# Altium footprint library WARSHIP.PcbLib: 51 footprints (part 1 of 4)
Each footprint in its own frame and in the unit in brackets; x right, y up, seen from the top. Pads: shape width x height; smd on the part's side, far side on the other; paste and mask are expansions set on the pad; w line width, h text height; cw(c..) or ccw(c..) is an arc to the next point about the centre after c.
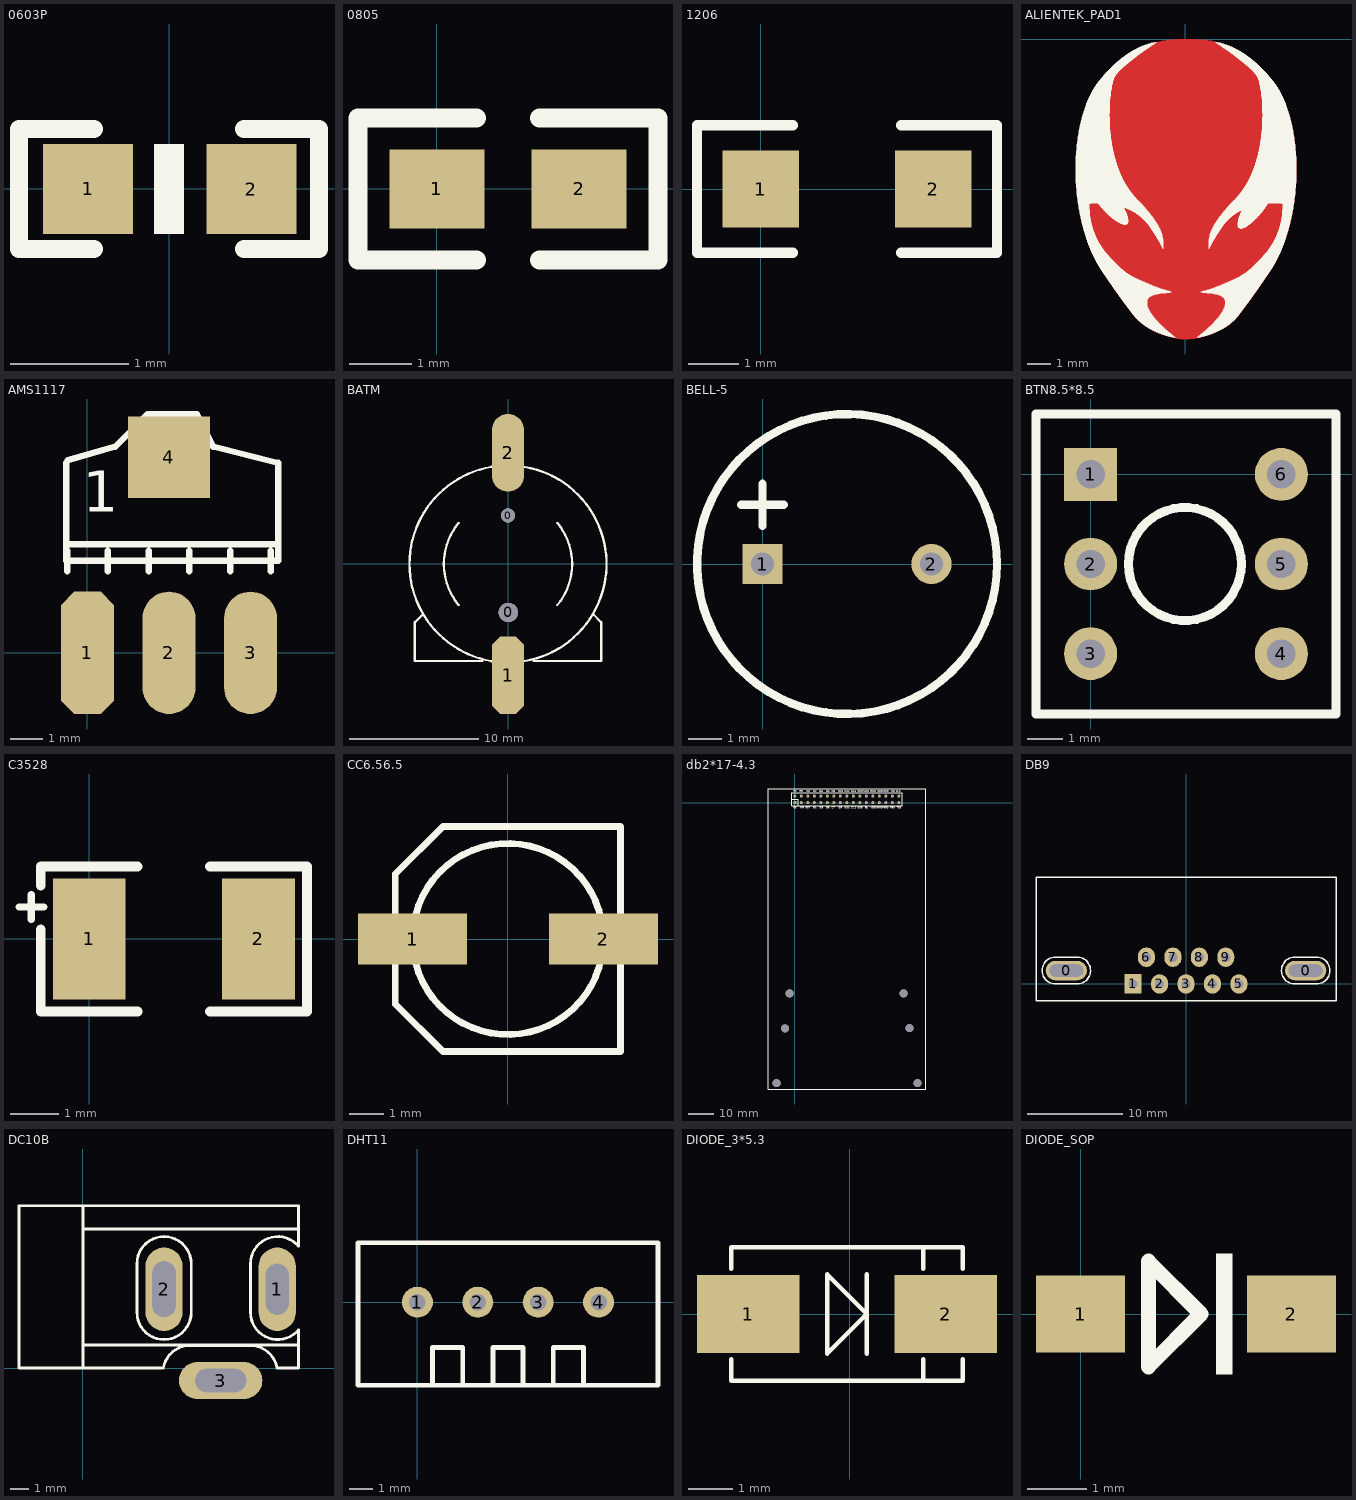
[diagram p0: the footprints below, top view; thin cyan lines are the x and y axes]

## 0603P [mil]
pads (2):
  rect 30x30 smd: 1(-27,0) 2(27.5,-0.06)
Top Overlay:
  region: 5,-15.06 5,14.94 -5,14.94 -5,-15.06
  lines w6: -25,-20.06 -50,-20.06 -50,19.94 -25,19.94 ; 25,-20.06 50,-20.06 50,19.94 25,19.94

## 0805 [mil]
pads (2):
  rect 60x50 smd: 1(0,-0.06) 2(90,-0.06)
Top Overlay:
  lines w12: 25,-45.06 -50,-45.06 -50,44.94 25,44.94 ; 65,-45.06 140,-45.06 140,44.94 65,44.94

## 1206 [mil]
pads (2):
  rect 60x60 smd: 1(0,0) 2(135,0)
Top Overlay:
  lines w8: 25,-50 -50,-50 -50,50 25,50 ; 110,-50 185,-50 185,50 110,50

## ALIENTEK_PAD1 [mm]
Top Layer:
  lines w0.014: -4.573,-5.951 4.666,-5.951 ; -4.573,-5.937 4.666,-5.937 ; -4.573,-5.923 4.666,-5.923 ; -4.573,-5.909 4.666,-5.909 ; -4.573,-5.895 4.666,-5.895 ; -4.573,-5.881 4.666,-5.881 ; -4.573,-5.867 4.666,-5.867 ; -4.573,-5.853 4.666,-5.853 ; -4.573,-5.839 4.666,-5.839 ; -4.573,-5.825 4.666,-5.825 ; -4.573,-5.812 4.666,-5.812 ; -4.573,-5.798 4.666,-5.798 ; -4.573,-5.784 4.666,-5.784 ; -4.573,-5.77 4.666,-5.77 ; -4.573,-5.756 4.666,-5.756 ; -4.573,-5.742 4.666,-5.742 ; -4.573,-5.728 4.666,-5.728 ; -4.573,-5.714 4.666,-5.714 ; -4.573,-5.7 4.666,-5.7 ; -4.573,-5.686 4.666,-5.686 ; -4.573,-5.672 4.666,-5.672 ; -4.573,-5.658 4.666,-5.658 ; -4.573,-5.644 4.666,-5.644 ; -4.573,-5.63 4.666,-5.63 ; -4.573,-5.616 4.666,-5.616 ; -4.573,-5.602 4.666,-5.602 ; -4.573,-5.588 4.666,-5.588 ; -4.573,-5.574 4.666,-5.574 ; -4.573,-5.56 4.666,-5.56 ; -4.573,-5.546 4.666,-5.546 ; -4.573,-5.532 4.666,-5.532 ; -4.573,-5.518 4.666,-5.518 ; -4.573,-5.504 4.666,-5.504 ; -4.573,-5.49 4.666,-5.49 ; -4.573,-5.476 4.666,-5.476 ; -4.573,-5.462 4.666,-5.462 ; -4.573,-5.448 4.666,-5.448 ; -4.573,-5.434 4.666,-5.434 ; -4.573,-5.42 4.666,-5.42 ; -4.573,-5.406 4.666,-5.406 ; -4.573,-5.392 4.666,-5.392 ; -4.573,-5.378 4.666,-5.378 ; -4.573,-5.364 4.666,-5.364 ; -4.573,-5.351 4.666,-5.351 ; -4.573,-5.337 4.666,-5.337 ; -4.573,-5.323 4.666,-5.323 ; -4.573,-5.309 4.666,-5.309 ; -4.573,-5.295 4.666,-5.295 ; -4.573,-5.281 4.666,-5.281 ; -4.573,-5.267 4.666,-5.267 ; -4.573,-5.253 4.666,-5.253 ; -4.573,-5.239 4.666,-5.239 ; -4.573,-5.225 4.666,-5.225 ; -4.573,-5.211 4.666,-5.211 ; -4.573,-5.197 4.666,-5.197 ; -4.573,-5.183 4.666,-5.183 ; -4.573,-5.169 4.666,-5.169 ; -4.573,-5.155 4.666,-5.155 ; -4.573,-5.141 4.666,-5.141 ; -4.573,-5.127 4.666,-5.127 ; -4.573,-5.113 4.666,-5.113 ; -4.573,-5.099 4.666,-5.099 ; -4.573,-5.085 4.666,-5.085 ; -4.573,-5.071 4.666,-5.071 ; -4.573,-5.057 4.666,-5.057 ; -4.573,-5.043 4.666,-5.043 ; -4.573,-5.029 4.666,-5.029 ; -4.573,-5.015 4.666,-5.015 ; -4.559,-6.189 4.652,-6.189 ; -4.559,-6.175 4.652,-6.175 ; -4.559,-6.161 4.652,-6.161 ; -4.559,-6.147 4.652,-6.147 ; -4.559,-6.133 4.652,-6.133 ; -4.559,-6.119 4.652,-6.119 ; -4.559,-6.105 4.652,-6.105 ; -4.559,-6.091 4.652,-6.091 ; -4.559,-6.077 4.652,-6.077 ; -4.559,-6.063 4.652,-6.063 ; -4.559,-6.049 4.652,-6.049 ; -4.559,-6.035 4.652,-6.035 ; -4.559,-6.021 4.652,-6.021 ; -4.559,-6.007 4.652,-6.007 ; -4.559,-5.993 4.652,-5.993 ; -4.559,-5.979 4.652,-5.979 ; -4.559,-5.965 4.652,-5.965 ; -4.559,-5.001 4.652,-5.001 ; -4.559,-4.987 4.652,-4.987 ; -4.559,-4.973 4.652,-4.973 ; -4.559,-4.959 4.652,-4.959 ; -4.559,-4.945 4.652,-4.945 ; -4.559,-4.931 4.652,-4.931 ; -4.559,-4.917 4.652,-4.917 ; -4.559,-4.903 4.652,-4.903 ; -4.559,-4.889 4.652,-4.889 ; -4.559,-4.876 4.652,-4.876 ; -4.559,-4.862 4.652,-4.862 ; -4.559,-4.848 4.652,-4.848 ; -4.559,-4.834 4.652,-4.834 ; -4.559,-4.82 4.652,-4.82 ; -4.559,-4.806 4.652,-4.806 ; -4.559,-4.792 4.652,-4.792 ; -4.545,-6.37 4.638,-6.37 ; -4.545,-6.356 4.638,-6.356 ; -4.545,-6.342 4.638,-6.342 ; -4.545,-6.328 4.638,-6.328 ; -4.545,-6.314 4.638,-6.314 ; -4.545,-6.3 4.638,-6.3 ; -4.545,-6.286 4.638,-6.286 ; -4.545,-6.273 4.638,-6.273 ; -4.545,-6.259 4.638,-6.259 ; -4.545,-6.245 4.638,-6.245 ; -4.545,-6.231 4.638,-6.231 ; -4.545,-6.217 4.638,-6.217 ; -4.545,-6.203 4.638,-6.203 ; -4.545,-4.778 4.638,-4.778 ; -4.545,-4.764 4.638,-4.764 ; -4.545,-4.75 4.638,-4.75 ; -4.545,-4.736 4.638,-4.736 ; -4.545,-4.722 4.638,-4.722 ; -4.545,-4.708 4.638,-4.708 ; -4.545,-4.694 4.638,-4.694 ; -4.545,-4.68 4.638,-4.68 ; -4.545,-4.666 4.638,-4.666 ; -4.545,-4.652 4.638,-4.652 ; -4.545,-4.638 4.638,-4.638 ; -4.531,-6.51 4.624,-6.51 ; -4.531,-6.496 4.624,-6.496 ; -4.531,-6.482 4.624,-6.482 ; -4.531,-6.468 4.624,-6.468 ; -4.531,-6.454 4.624,-6.454 ; -4.531,-6.44 4.624,-6.44 ; -4.531,-6.426 4.624,-6.426 ; -4.531,-6.412 4.624,-6.412 ; -4.531,-6.398 4.624,-6.398 ; -4.531,-6.384 4.624,-6.384 ; -4.531,-4.624 4.624,-4.624 ; -4.531,-4.61 4.624,-4.61 ; -4.531,-4.596 4.624,-4.596 ; -4.531,-4.582 4.624,-4.582 ; -4.531,-4.568 4.624,-4.568 ; -4.531,-4.554 4.624,-4.554 ; -4.531,-4.54 4.624,-4.54 ; -4.531,-4.526 4.624,-4.526 ; -4.531,-4.512 4.624,-4.512 ; -4.531,-4.498 4.624,-4.498 ; -4.517,-6.636 4.61,-6.636 ; -4.517,-6.622 4.61,-6.622 ; -4.517,-6.608 4.61,-6.608 ; -4.517,-6.594 4.61,-6.594 ; -4.517,-6.58 4.61,-6.58 ; -4.517,-6.566 4.61,-6.566 ; -4.517,-6.552 4.61,-6.552 ; -4.517,-6.538 4.61,-6.538 ; -4.517,-6.524 4.61,-6.524 ; -4.517,-4.484 4.61,-4.484 ; -4.517,-4.47 4.61,-4.47 ; -4.517,-4.456 4.61,-4.456 ; -4.517,-4.442 4.61,-4.442 ; -4.517,-4.428 4.61,-4.428 ; -4.517,-4.415 4.61,-4.415 ; -4.517,-4.401 4.61,-4.401 ; -4.517,-4.387 4.61,-4.387 ; -4.517,-4.373 4.61,-4.373 ; -4.503,-6.748 4.596,-6.748 ; -4.503,-6.734 4.596,-6.734 ; -4.503,-6.72 4.596,-6.72 ; -4.503,-6.706 4.596,-6.706 ; -4.503,-6.692 4.596,-6.692 ; -4.503,-6.678 4.596,-6.678 ; -4.503,-6.664 4.596,-6.664 ; -4.503,-6.65 4.596,-6.65 ; -4.503,-4.359 4.596,-4.359 ; -4.503,-4.345 4.596,-4.345 ; -4.503,-4.331 4.596,-4.331 ; -4.503,-4.317 4.596,-4.317 ; -4.503,-4.303 4.596,-4.303 ; -4.503,-4.289 4.596,-4.289 ; -4.503,-4.275 4.596,-4.275 ; -4.503,-4.261 4.596,-4.261 ; -4.489,-6.845 4.582,-6.845 ; -4.489,-6.831 4.582,-6.831 ; -4.489,-6.817 4.582,-6.817 ; -4.489,-6.803 4.582,-6.803 ; -4.489,-6.789 4.582,-6.789 ; -4.489,-6.775 4.582,-6.775 ; -4.489,-6.761 4.582,-6.761 ; -4.489,-4.247 4.582,-4.247 ; -4.489,-4.233 4.582,-4.233 ; -4.489,-4.219 4.582,-4.219 ; -4.489,-4.205 4.582,-4.205 ; -4.489,-4.191 4.582,-4.191 ; -4.489,-4.177 4.582,-4.177 ; -4.489,-4.163 4.582,-4.163 ; -4.475,-6.943 4.568,-6.943 ; -4.475,-6.929 4.568,-6.929 ; -4.475,-6.915 4.568,-6.915 ; -4.475,-6.901 4.568,-6.901 ; -4.475,-6.887 4.568,-6.887 ; -4.475,-6.873 4.568,-6.873 ; -4.475,-6.859 4.568,-6.859 ; -4.475,-4.149 4.568,-4.149 ; -4.475,-4.135 4.568,-4.135 ; -4.475,-4.121 4.568,-4.121 ; -4.475,-4.107 4.568,-4.107 ; -4.475,-4.093 4.568,-4.093 ; -4.475,-4.079 4.568,-4.079 ; -4.461,-7.041 4.554,-7.041 ; -4.461,-7.027 4.554,-7.027 ; -4.461,-7.013 4.554,-7.013 ; -4.461,-6.999 4.554,-6.999 ; -4.461,-6.985 4.554,-6.985 ; -4.461,-6.971 4.554,-6.971 ; -4.461,-6.957 4.554,-6.957 ; -4.461,-4.065 4.554,-4.065 ; -4.461,-4.051 4.554,-4.051 ; -4.461,-4.037 4.554,-4.037 ; -4.461,-4.023 4.554,-4.023 ; -4.461,-4.009 4.554,-4.009 ; -4.461,-3.995 4.554,-3.995 ; -4.447,-7.125 4.54,-7.125 ; -4.447,-7.111 4.54,-7.111 ; -4.447,-7.097 4.54,-7.097 ; -4.447,-7.083 4.54,-7.083 ; -4.447,-7.069 4.54,-7.069 ; -4.447,-7.055 4.54,-7.055 ; -4.447,-3.981 4.54,-3.981 ; -4.447,-3.967 4.54,-3.967 ; -4.447,-3.954 4.54,-3.954 ; -4.447,-3.94 4.54,-3.94 ; -4.447,-3.926 4.54,-3.926 ; -4.447,-3.912 4.54,-3.912 ; -4.433,-7.195 4.526,-7.195 ; -4.433,-7.181 4.526,-7.181 ; -4.433,-7.167 4.526,-7.167 ; -4.433,-7.153 4.526,-7.153 ; -4.433,-7.139 4.526,-7.139 ; -4.433,-3.898 4.526,-3.898 ; -4.433,-3.884 4.526,-3.884 ; -4.433,-3.87 4.526,-3.87 ; -4.433,-3.856 4.526,-3.856 ; -4.433,-3.842 4.526,-3.842 ; -4.419,-7.278 4.512,-7.278 ; -4.419,-7.264 4.512,-7.264 ; -4.419,-7.25 4.512,-7.25 ; -4.419,-7.236 4.512,-7.236 ; -4.419,-7.222 4.512,-7.222 ; -4.419,-7.209 4.512,-7.209 ; -4.419,-3.828 4.512,-3.828 ; -4.419,-3.814 4.512,-3.814 ; -4.419,-3.8 4.512,-3.8 ; -4.419,-3.786 4.512,-3.786 ; -4.419,-3.772 4.512,-3.772 ; -4.419,-3.758 4.512,-3.758 ; -4.405,-7.348 4.498,-7.348 ; -4.405,-7.334 4.498,-7.334 ; -4.405,-7.32 4.498,-7.32 ; -4.405,-7.306 4.498,-7.306 ; -4.405,-7.292 4.498,-7.292 ; -4.405,-3.744 4.498,-3.744 ; -4.405,-3.73 4.498,-3.73 ; -4.405,-3.716 4.498,-3.716 ; -4.405,-3.702 4.498,-3.702 ; -4.391,-7.418 4.484,-7.418 ; -4.391,-7.404 4.484,-7.404 ; -4.391,-7.39 4.484,-7.39 ; -4.391,-7.376 4.484,-7.376 ; -4.391,-7.362 4.484,-7.362 ; -4.391,-3.688 4.484,-3.688 ; -4.391,-3.674 4.484,-3.674 ; -4.391,-3.66 4.484,-3.66 ; -4.391,-3.646 4.484,-3.646 ; -4.391,-3.632 4.484,-3.632 ; -4.377,-7.488 4.47,-7.488 ; -4.377,-7.474 4.47,-7.474 ; -4.377,-7.46 4.47,-7.46 ; -4.377,-7.446 4.47,-7.446 ; -4.377,-7.432 4.47,-7.432 ; -4.377,-3.618 4.47,-3.618 ; -4.377,-3.604 4.47,-3.604 ; -4.377,-3.59 4.47,-3.59 ; -4.377,-3.576 4.47,-3.576 ; -4.363,-7.544 4.456,-7.544 ; -4.363,-7.53 4.456,-7.53 ; -4.363,-7.516 4.456,-7.516 ; -4.363,-7.502 4.456,-7.502 ; -4.363,-3.562 4.456,-3.562 ; -4.363,-3.548 4.456,-3.548 ; -4.363,-3.534 4.456,-3.534 ; -4.363,-3.52 4.456,-3.52 ; -4.363,-3.506 4.456,-3.506 ; -4.349,-7.614 4.442,-7.614 ; -4.349,-7.6 4.442,-7.6 ; -4.349,-7.586 4.442,-7.586 ; -4.349,-7.572 4.442,-7.572 ; -4.349,-7.558 4.442,-7.558 ; -4.349,-3.492 4.442,-3.492 ; -4.349,-3.479 4.442,-3.479 ; -4.349,-3.465 4.442,-3.465 ; -4.349,-3.451 4.442,-3.451 ; -4.335,-7.67 4.428,-7.67 ; -4.335,-7.656 4.428,-7.656 ; -4.335,-7.642 4.428,-7.642 ; -4.335,-7.628 4.428,-7.628 ; -4.335,-3.437 4.428,-3.437 ; -4.335,-3.423 4.428,-3.423 ; -4.335,-3.409 4.428,-3.409 ; -4.335,-3.395 4.428,-3.395 ; -4.321,-7.725 4.415,-7.725 ; -4.321,-7.711 4.415,-7.711 ; -4.321,-7.697 4.415,-7.697 ; -4.321,-7.683 4.415,-7.683 ; -4.321,-3.381 4.415,-3.381 ; -4.321,-3.367 4.415,-3.367 ; -4.321,-3.353 4.415,-3.353 ; -4.307,-7.781 4.401,-7.781 ; -4.307,-7.767 4.401,-7.767 ; -4.307,-7.753 4.401,-7.753 ; -4.307,-7.739 4.401,-7.739 ; -4.307,-3.339 4.401,-3.339 ; -4.307,-3.325 4.401,-3.325 ; -4.307,-3.311 4.401,-3.311 ; -4.307,-3.297 4.401,-3.297 ; -4.293,-7.837 4.387,-7.837 ; -4.293,-7.823 4.387,-7.823 ; -4.293,-7.809 4.387,-7.809 ; -4.293,-7.795 4.387,-7.795 ; -4.293,-3.283 4.387,-3.283 ; -4.293,-3.269 4.387,-3.269 ; -4.293,-3.255 4.387,-3.255 ; -4.293,-3.241 4.387,-3.241 ; -4.279,-7.893 4.373,-7.893 ; -4.279,-7.879 4.373,-7.879 ; -4.279,-7.865 4.373,-7.865 ; -4.279,-7.851 4.373,-7.851 ; -4.279,-3.227 4.373,-3.227 ; -4.279,-3.213 4.373,-3.213 ; -4.279,-3.199 4.373,-3.199 ; -4.266,-7.935 4.359,-7.935 ; -4.266,-7.921 4.359,-7.921 ; -4.266,-7.907 4.359,-7.907 ; -4.266,-3.185 4.359,-3.185 ; -4.266,-3.171 4.359,-3.171 ; -4.266,-3.157 4.359,-3.157 ; -4.266,-3.143 4.359,-3.143 ; -4.252,-7.977 4.345,-7.977 ; -4.252,-7.963 4.345,-7.963 ; -4.252,-7.949 4.345,-7.949 ; -4.252,-3.129 4.345,-3.129 ; -4.252,-3.115 4.345,-3.115 ; -4.252,-3.101 4.345,-3.101 ; -4.238,-8.033 4.331,-8.033 ; -4.238,-8.019 4.331,-8.019 ; -4.238,-8.005 4.331,-8.005 ; -4.238,-7.991 4.331,-7.991 ; -4.238,-3.087 4.331,-3.087 ; -4.238,-3.073 4.331,-3.073 ; -4.238,-3.059 4.331,-3.059 ; -4.224,-8.075 4.317,-8.075 ; -4.224,-8.061 4.317,-8.061 ; -4.224,-8.047 4.317,-8.047 ; -4.224,-3.045 4.317,-3.045 ; -4.224,-3.031 4.317,-3.031 ; -4.224,-3.018 4.317,-3.018 ; -4.21,-8.117 4.303,-8.117 ; -4.21,-8.103 4.303,-8.103 ; -4.21,-8.089 4.303,-8.089 ; -4.21,-3.004 4.303,-3.004 ; -4.21,-2.99 4.303,-2.99 ; -4.21,-2.976 4.303,-2.976 ; -4.196,-8.172 4.289,-8.172 ; -4.196,-8.158 4.289,-8.158 ; -4.196,-8.145 4.289,-8.145 ; -4.196,-8.131 4.289,-8.131 ; -4.196,-2.962 4.289,-2.962 ; -4.196,-2.948 4.289,-2.948 ; -4.196,-2.934 4.289,-2.934 ; -4.182,-8.214 4.275,-8.214 ; -4.182,-8.2 4.275,-8.2 ; -4.182,-8.186 4.275,-8.186 ; -4.182,-2.92 4.275,-2.92 ; -4.182,-2.906 4.275,-2.906 ; -4.182,-2.892 4.275,-2.892 ; -4.168,-8.256 4.261,-8.256 ; -4.168,-8.242 4.261,-8.242 ; -4.168,-8.228 4.261,-8.228 ; -4.168,-2.878 4.261,-2.878 ; -4.168,-2.864 4.261,-2.864 ; -4.168,-2.85 4.261,-2.85 ; -4.154,-8.298 4.247,-8.298 ; -4.154,-8.284 4.247,-8.284 ; -4.154,-8.27 4.247,-8.27 ; -4.154,-2.836 4.247,-2.836 ; -4.154,-2.822 4.247,-2.822 ; -4.14,-8.34 4.233,-8.34 ; -4.14,-8.326 4.233,-8.326 ; -4.14,-8.312 4.233,-8.312 ; -4.14,-2.808 4.233,-2.808 ; -4.14,-2.794 4.233,-2.794 ; -4.14,-2.78 4.233,-2.78 ; -4.126,-8.382 4.219,-8.382 ; -4.126,-8.368 4.219,-8.368 ; -4.126,-8.354 4.219,-8.354 ; -4.126,-2.766 4.219,-2.766 ; -4.126,-2.752 4.219,-2.752 ; -4.126,-2.738 4.219,-2.738 ; -4.112,-8.424 4.205,-8.424 ; -4.112,-8.41 4.205,-8.41 ; -4.112,-8.396 4.205,-8.396 ; -4.112,-2.724 4.205,-2.724 ; -4.112,-2.71 4.205,-2.71 ; -4.098,-8.466 4.191,-8.466 ; -4.098,-8.452 4.191,-8.452 ; -4.098,-8.438 4.191,-8.438 ; -4.098,-2.696 4.191,-2.696 ; -4.098,-2.682 4.191,-2.682 ; -4.098,-2.668 4.191,-2.668 ; -4.084,-8.508 4.177,-8.508 ; -4.084,-8.494 4.177,-8.494 ; -4.084,-8.48 4.177,-8.48 ; -4.084,-2.654 4.177,-2.654 ; -4.084,-2.64 4.177,-2.64 ; -4.07,-8.536 4.163,-8.536 ; -4.07,-8.522 4.163,-8.522 ; -4.07,-2.626 4.163,-2.626 ; -4.07,-2.612 4.163,-2.612 ; -4.056,-8.578 4.149,-8.578 ; -4.056,-8.564 4.149,-8.564 ; -4.056,-8.55 4.149,-8.55 ; -4.056,-2.598 4.149,-2.598 ; -4.056,-2.584 4.149,-2.584 ; -4.056,-2.57 4.149,-2.57 ; -4.042,-8.619 4.135,-8.619 ; -4.042,-8.606 4.135,-8.606 ; -4.042,-8.592 4.135,-8.592 ; -4.042,-2.557 4.135,-2.557 ; -4.042,-2.543 4.135,-2.543 ; -4.028,-8.647 4.121,-8.647 ; -4.028,-8.633 4.121,-8.633 ; -4.028,-2.529 4.121,-2.529 ; -4.028,-2.515 4.121,-2.515 ; -4.014,-8.689 4.107,-8.689 ; -4.014,-8.675 4.107,-8.675 ; -4.014,-8.661 4.107,-8.661 ; -4.014,-2.501 4.107,-2.501 ; -4.014,-2.487 4.107,-2.487 ; -4,-8.717 4.093,-8.717 ; -4,-8.703 4.093,-8.703 ; -4,-2.473 4.093,-2.473 ; -4,-2.459 4.093,-2.459 ; -3.986,-8.759 4.079,-8.759 ; -3.986,-8.745 4.079,-8.745 ; -3.986,-8.731 4.079,-8.731 ; -3.986,-2.445 4.079,-2.445 ; -3.986,-2.431 4.079,-2.431 ; -3.986,-2.417 4.079,-2.417 ; -3.972,-8.787 4.065,-8.787 ; -3.972,-8.773 4.065,-8.773 ; -3.972,-2.403 4.065,-2.403 ; -3.972,-2.389 4.065,-2.389 ; -3.958,-8.829 4.051,-8.829 ; -3.958,-8.815 4.051,-8.815 ; -3.958,-8.801 4.051,-8.801 ; -3.958,-2.375 4.051,-2.375 ; -3.958,-2.361 4.051,-2.361 ; -3.944,-8.857 4.037,-8.857 ; -3.944,-8.843 4.037,-8.843 ; -3.944,-2.347 4.037,-2.347 ; -3.944,-2.333 4.037,-2.333 ; -3.93,-8.885 4.023,-8.885 ; -3.93,-8.871 4.023,-8.871 ; -3.93,-2.319 4.023,-2.319 ; -3.916,-8.927 4.009,-8.927 ; -3.916,-8.913 4.009,-8.913 ; -3.916,-8.899 4.009,-8.899 ; -3.916,-2.305 4.009,-2.305 ; -3.916,-2.291 4.009,-2.291 ; -3.902,-8.955 3.995,-8.955 ; -3.902,-8.941 3.995,-8.941 ; -3.902,-2.277 3.995,-2.277 ; -3.902,-2.263 3.995,-2.263 ; -3.888,-8.983 3.981,-8.983 ; -3.888,-8.969 3.981,-8.969 ; -3.888,-2.249 3.981,-2.249 ; -3.888,-2.235 3.981,-2.235 ; -3.874,-9.011 3.967,-9.011 ; -3.874,-8.997 3.967,-8.997 ; -3.874,-2.221 3.967,-2.221 ; -3.874,-2.207 3.967,-2.207 ; -3.86,-9.039 3.954,-9.039 ; -3.86,-9.025 3.954,-9.025 ; -3.86,-2.193 3.954,-2.193 ; -3.86,-2.179 3.954,-2.179 ; -3.846,-9.067 3.94,-9.067 ; -3.846,-9.053 3.94,-9.053 ; -3.846,-2.165 3.94,-2.165 ; -3.832,-9.108 3.926,-9.108 ; -3.832,-9.094 3.926,-9.094 ; -3.832,-9.08 3.926,-9.08 ; -3.832,-2.151 3.926,-2.151 ; -3.832,-2.137 3.926,-2.137 ; -3.818,-9.136 3.912,-9.136 ; -3.818,-9.122 3.912,-9.122 ; -3.818,-2.123 3.912,-2.123 ; -3.818,-2.109 3.912,-2.109 ; -3.804,-9.164 3.898,-9.164 ; -3.804,-9.15 3.898,-9.15 ; -3.804,-2.095 3.898,-2.095 ; -3.791,-9.192 3.884,-9.192 ; -3.791,-9.178 3.884,-9.178 ; -3.791,-2.082 3.884,-2.082 ; -3.791,-2.068 3.884,-2.068 ; -3.777,-9.22 3.87,-9.22 ; -3.777,-9.206 3.87,-9.206 ; -3.777,-2.054 3.87,-2.054 ; -3.763,-9.248 3.856,-9.248 ; -3.763,-9.234 3.856,-9.234 ; -3.763,-2.04 3.856,-2.04 ; -3.763,-2.026 3.856,-2.026 ; -3.749,-9.276 3.842,-9.276 ; -3.749,-9.262 3.842,-9.262 ; -3.749,-2.012 3.842,-2.012 ; -3.749,-1.998 3.842,-1.998 ; -3.735,-9.29 3.828,-9.29 ; -3.735,-1.984 3.828,-1.984 ; -3.721,-9.318 3.814,-9.318 ; -3.721,-9.304 3.814,-9.304 ; -3.721,-1.97 3.814,-1.97 ; -3.721,-1.956 3.814,-1.956 ; -3.707,-9.346 3.8,-9.346 ; -3.707,-9.332 3.8,-9.332 ; -3.707,-1.942 3.8,-1.942 ; -3.693,-9.374 3.786,-9.374 ; -3.693,-9.36 3.786,-9.36 ; -3.693,-1.928 3.786,-1.928 ; -3.679,-9.402 3.772,-9.402 ; -3.679,-9.388 3.772,-9.388 ; -3.679,-1.914 3.772,-1.914 ; -3.679,-1.9 3.772,-1.9 ; -3.665,-9.43 3.758,-9.43 ; -3.665,-9.416 3.758,-9.416 ; -3.665,-1.886 3.758,-1.886 ; -3.651,-9.444 3.744,-9.444 ; -3.651,-1.872 3.744,-1.872 ; -3.637,-9.472 3.73,-9.472 ; -3.637,-9.458 3.73,-9.458 ; -3.637,-1.858 3.73,-1.858 ; -3.637,-1.844 3.73,-1.844 ; -3.623,-9.5 3.716,-9.5 ; -3.623,-9.486 3.716,-9.486 ; -3.623,-1.83 3.716,-1.83 ; -3.609,-9.528 3.702,-9.528 ; -3.609,-9.514 3.702,-9.514 ; -3.609,-1.816 3.702,-1.816 ; -3.595,-9.542 3.688,-9.542 ; -3.595,-1.802 3.688,-1.802 ; -3.595,-1.788 3.688,-1.788 ; -3.581,-9.569 3.674,-9.569 ; -3.581,-9.555 3.674,-9.555 ; -3.581,-1.774 3.674,-1.774 ; -3.567,-9.583 3.66,-9.583 ; -3.567,-1.76 3.66,-1.76 ; -3.553,-9.611 3.646,-9.611 ; -3.553,-9.597 3.646,-9.597 ; -3.553,-1.746 3.646,-1.746 ; -3.539,-9.639 3.632,-9.639 ; -3.539,-9.625 3.632,-9.625 ; -3.539,-1.732 3.632,-1.732 ; -3.539,-1.718 3.632,-1.718 ; -3.525,-9.653 3.618,-9.653 ; -3.525,-1.704 3.618,-1.704 ; -3.511,-9.681 3.604,-9.681 ; -3.511,-9.667 3.604,-9.667 ; -3.511,-1.69 3.604,-1.69 ; -3.497,-9.695 3.59,-9.695 ; -3.497,-1.676 3.59,-1.676 ; -3.483,-9.723 3.576,-9.723 ; -3.483,-9.709 3.576,-9.709 ; -3.483,-1.662 3.576,-1.662 ; -3.469,-9.737 3.562,-9.737 ; -3.469,-1.648 3.562,-1.648 ; -3.469,-1.634 3.562,-1.634 ; -3.455,-9.765 3.548,-9.765 ; -3.455,-9.751 3.548,-9.751 ; -3.455,-1.621 3.548,-1.621 ; -3.441,-9.779 3.534,-9.779 ; -3.441,-1.607 3.534,-1.607 ; -3.427,-9.807 3.52,-9.807 ; -3.427,-9.793 3.52,-9.793 ; -3.427,-1.593 3.52,-1.593 ; -3.413,-9.821 3.506,-9.821 ; -3.413,-1.579 3.506,-1.579 ; -3.399,-9.849 3.492,-9.849 ; -3.399,-9.835 3.492,-9.835 ; -3.399,-1.565 3.492,-1.565 ; -3.385,-9.863 3.479,-9.863 ; -3.385,-1.551 3.479,-1.551 ; -3.385,-1.537 3.479,-1.537 ; -3.371,-9.891 3.465,-9.891 ; -3.371,-9.877 3.465,-9.877 ; -3.371,-1.523 3.465,-1.523 ; -3.357,-9.905 3.451,-9.905 ; -3.357,-1.509 3.451,-1.509 ; -3.343,-9.933 3.437,-9.933 ; -3.343,-9.919 3.437,-9.919 ; -3.343,-1.495 3.437,-1.495 ; -3.33,-9.947 3.423,-9.947 ; -3.33,-1.481 3.423,-1.481 ; -3.316,-9.975 3.409,-9.975 ; -3.316,-9.961 3.409,-9.961 ; -3.316,-1.467 3.409,-1.467 ; -3.302,-9.989 3.395,-9.989 ; -3.302,-1.453 3.395,-1.453 ; -3.288,-10.016 3.381,-10.016 ; -3.288,-10.003 3.381,-10.003 ; -3.288,-1.439 3.381,-1.439 ; -3.274,-10.03 3.367,-10.03 ; -3.274,-1.425 3.367,-1.425 ; -3.26,-10.058 3.353,-10.058 ; -3.26,-10.044 3.353,-10.044 ; -3.26,-1.411 3.353,-1.411 ; -3.26,-1.397 3.353,-1.397 ; -3.246,-10.072 3.339,-10.072 ; -3.246,-1.383 3.339,-1.383 ; -3.232,-10.1 3.325,-10.1 ; -3.232,-10.086 3.325,-10.086 ; -3.232,-1.369 3.325,-1.369 ; -3.218,-10.114 3.311,-10.114 ; -3.218,-1.355 3.311,-1.355 ; -3.204,-10.142 3.297,-10.142 ; -3.204,-10.128 3.297,-10.128 ; -3.204,-1.341 3.297,-1.341 ; -3.19,-10.156 3.283,-10.156 ; -3.19,-1.327 3.283,-1.327 ; -3.176,-10.184 3.269,-10.184 ; -3.176,-10.17 3.269,-10.17 ; -3.176,-1.313 3.269,-1.313 ; -3.162,-10.198 3.255,-10.198 ; -3.162,-1.299 3.255,-1.299 ; -3.148,-10.212 3.241,-10.212 ; -3.148,-1.285 3.241,-1.285 ; -3.134,-10.24 3.227,-10.24 ; -3.134,-10.226 3.227,-10.226 ; -3.134,-1.271 3.227,-1.271 ; -3.12,-10.254 3.213,-10.254 ; -3.12,-1.257 3.213,-1.257 ; -3.106,-10.282 3.199,-10.282 ; -3.106,-10.268 3.199,-10.268 ; -3.106,-1.243 3.199,-1.243 ; -3.092,-10.296 3.185,-10.296 ; -3.092,-1.229 3.185,-1.229 ; -3.078,-10.324 3.171,-10.324 ; -3.078,-10.31 3.171,-10.31 ; -3.078,-1.215 3.171,-1.215 ; -3.064,-10.338 3.157,-10.338 ; -3.064,-1.201 3.157,-1.201 ; -3.05,-10.366 3.143,-10.366 ; -3.05,-10.352 3.143,-10.352 ; -3.05,-1.187 3.143,-1.187 ; -3.036,-10.38 3.129,-10.38 ; -3.036,-1.173 3.129,-1.173 ; -3.022,-10.394 3.115,-10.394 ; -3.022,-1.16 3.115,-1.16 ; -3.008,-10.422 3.101,-10.422 ; -3.008,-10.408 3.101,-10.408 ; -3.008,-1.146 3.101,-1.146 ; -2.994,-10.45 3.087,-10.45 ; -2.994,-10.436 3.087,-10.436 ; -2.994,-1.132 3.087,-1.132 ; -2.98,-10.464 3.073,-10.464 ; -2.966,-10.491 3.059,-10.491 ; -2.966,-10.477 3.059,-10.477 ; -2.966,-1.118 3.059,-1.118 ; -2.952,-10.505 3.045,-10.505 ; -2.952,-1.104 3.045,-1.104 ; -2.938,-10.519 3.031,-10.519 ; -2.938,-1.09 3.031,-1.09 ; -2.924,-10.547 3.018,-10.547 ; -2.924,-10.533 3.018,-10.533 ; -2.924,-1.076 3.018,-1.076 ; -2.91,-10.561 3.004,-10.561 ; -2.91,-1.062 3.004,-1.062 ; -2.896,-10.589 2.99,-10.589 ; -2.896,-10.575 2.99,-10.575 ; -2.896,-1.048 2.99,-1.048 ; -2.882,-10.603 2.976,-10.603 ; -2.882,-1.034 2.976,-1.034 ; -2.869,-10.617 2.962,-10.617 ; -2.869,-1.02 2.962,-1.02 ; -2.855,-10.645 2.948,-10.645 ; -2.855,-10.631 2.948,-10.631 ; -2.855,-1.006 2.948,-1.006 ; -2.841,-10.659 2.934,-10.659 ; -2.827,-10.687 2.92,-10.687 ; -2.827,-10.673 2.92,-10.673 ; -2.827,-0.992 2.92,-0.992 ; -2.813,-10.701 2.906,-10.701 ; -2.813,-0.978 2.906,-0.978 ; -2.799,-10.715 2.892,-10.715 ; -2.799,-0.964 2.892,-0.964 ; -2.785,-10.743 2.878,-10.743 ; -2.785,-10.729 2.878,-10.729 ; -2.785,-0.95 2.878,-0.95 ; -2.771,-10.757 2.864,-10.757 ; -2.771,-0.936 2.864,-0.936 ; -2.757,-10.785 2.85,-10.785 ; -2.757,-10.771 2.85,-10.771 ; -2.743,-10.799 2.836,-10.799 ; -2.743,-0.922 2.836,-0.922 ; -2.729,-10.813 2.822,-10.813 ; -2.729,-0.908 2.822,-0.908 ; -2.715,-10.841 2.808,-10.841 ; -2.715,-10.827 2.808,-10.827 ; -2.715,-0.894 2.808,-0.894 ; -2.701,-10.855 2.794,-10.855 ; -2.701,-0.88 2.794,-0.88 ; -2.687,-10.883 2.78,-10.883 ; -2.687,-10.869 2.78,-10.869 ; -2.673,-10.897 2.766,-10.897 ; -2.673,-0.866 2.766,-0.866 ; -2.659,-10.911 2.752,-10.911 ; -2.659,-0.852 2.752,-0.852 ; -2.645,-10.939 2.738,-10.939 ; -2.645,-10.925 2.738,-10.925 ; -2.645,-0.838 2.738,-0.838 ; -2.631,-10.952 2.724,-10.952 ; -2.631,-0.824 2.724,-0.824 ; -2.617,-10.98 2.71,-10.98 ; -2.617,-10.966 2.71,-10.966 ; -2.603,-10.994 2.696,-10.994 ; -2.603,-0.81 2.696,-0.81 ; -2.589,-11.008 2.682,-11.008 ; -2.589,-0.796 2.682,-0.796 ; -2.575,-11.036 2.668,-11.036 ; -2.575,-11.022 2.668,-11.022 ; -2.575,-0.782 2.668,-0.782 ; -2.561,-11.05 2.654,-11.05 ; -2.547,-11.064 2.64,-11.064 ; -2.547,-0.768 2.64,-0.768 ; -2.533,-11.092 2.626,-11.092 ; -2.533,-11.078 2.626,-11.078 ; -2.533,-0.754 2.626,-0.754 ; -2.519,-11.106 2.612,-11.106 ; -2.519,-0.74 2.612,-0.74 ; -2.505,-11.12 2.598,-11.12 ; -2.491,-11.148 2.584,-11.148 ; -2.491,-11.134 2.584,-11.134 ; -2.491,-0.726 2.584,-0.726 ; -2.477,-11.162 2.57,-11.162 ; -2.477,-0.712 2.57,-0.712 ; -2.463,-11.176 2.557,-11.176 ; -2.449,-11.204 2.543,-11.204 ; -2.449,-11.19 2.543,-11.19 ; -2.449,-0.699 2.543,-0.699 ; -2.435,-11.218 2.529,-11.218 ; -2.435,-0.685 2.529,-0.685 ; -2.421,-11.232 2.515,-11.232 ; -2.407,-11.26 2.501,-11.26 ; -2.407,-11.246 2.501,-11.246 ; -2.407,-0.671 2.501,-0.671 ; -2.394,-11.274 2.487,-11.274 ; -2.394,-0.657 2.487,-0.657 ; -2.38,-11.288 2.473,-11.288 ; -2.366,-11.316 2.459,-11.316 ; -2.366,-11.302 2.459,-11.302 ; -2.366,-0.643 2.459,-0.643 ; -2.352,-11.33 2.445,-11.33 ; -2.352,-0.629 2.445,-0.629 ; -2.338,-11.344 2.431,-11.344 ; -2.324,-11.372 2.417,-11.372 ; -2.324,-11.358 2.417,-11.358 ; -2.324,-0.615 2.417,-0.615 ; -2.31,-11.386 2.403,-11.386 ; -2.31,-0.601 2.403,-0.601 ; -2.296,-11.413 2.375,-11.413 ; -2.296,-11.4 2.389,-11.4 ; -2.282,-11.427 2.375,-11.427 ; -2.282,-0.587 2.375,-0.587 ; -2.268,-11.441 2.361,-11.441 ; -2.268,-0.573 2.361,-0.573 ; -2.254,-11.469 2.347,-11.469 ; -2.254,-11.455 2.361,-11.455 ; -2.24,-11.483 2.333,-11.483 ; -2.24,-0.559 2.333,-0.559 ; -2.226,-11.497 2.319,-11.497 ; -2.212,-11.511 2.305,-11.511 ; -2.212,-0.545 2.305,-0.545 ; -2.198,-11.539 2.291,-11.539 ; -2.198,-11.525 2.305,-11.525 ; -2.198,-0.531 2.291,-0.531 ; -2.184,-11.553 2.277,-11.553 ; -2.17,-11.567 2.263,-11.567 ; -2.17,-0.517 2.263,-0.517 ; -2.156,-11.581 2.263,-11.581 ; -2.142,-11.609 2.235,-11.609 ; -2.142,-11.595 2.249,-11.595 ; -2.142,-0.503 2.235,-0.503 ; -2.128,-11.623 2.221,-11.623 ; -2.114,-11.637 2.221,-11.637 ; -2.114,-0.489 2.207,-0.489 ; -2.1,-11.651 2.207,-11.651 ; -2.1,-0.475 2.193,-0.475 ; -2.086,-11.665 2.193,-11.665 ; -2.072,-11.679 2.179,-11.679 ; -2.072,-0.461 2.165,-0.461 ; -2.058,-11.693 2.165,-11.693 ; -2.044,-11.707 2.151,-11.707 ; -2.044,-0.447 2.137,-0.447 ; -2.03,-11.721 2.137,-11.721 ; -2.016,-11.735 2.123,-11.735 ; -2.016,-0.433 2.123,-0.433 ; -2.002,-11.749 2.109,-11.749 ; -1.988,-11.763 2.095,-11.763 ; -1.988,-0.419 2.095,-0.419 ; -1.974,-11.777 2.082,-11.777 ; -1.96,-11.791 2.068,-11.791 ; -1.96,-0.405 2.068,-0.405 ; -1.946,-11.805 2.054,-11.805 ; -1.933,-11.819 2.04,-11.819 ; -1.933,-0.391 2.026,-0.391 ; -1.919,-11.833 2.026,-11.833 ; -1.905,-11.847 2.012,-11.847 ; -1.905,-0.377 1.998,-0.377 ; -1.891,-11.861 1.998,-11.861 ; -1.877,-11.874 1.984,-11.874 ; -1.877,-0.363 1.97,-0.363 ; -1.849,-11.888 1.97,-11.888 ; -1.835,-11.902 1.942,-11.902 ; -1.835,-0.349 1.928,-0.349 ; -1.821,-11.916 1.928,-11.916 ; -1.807,-11.93 1.914,-11.93 ; -1.807,-0.335 1.9,-0.335 ; -1.793,-11.944 1.9,-11.944 ; -1.779,-0.321 1.872,-0.321 ; -1.765,-11.958 1.872,-11.958 ; -1.751,-11.972 1.858,-11.972 ; -1.751,-0.307 1.83,-0.307 ; -1.737,-11.986 1.844,-11.986 ; -1.709,-12 1.816,-12 ; -1.709,-0.293 1.802,-0.293 ; -1.695,-12.014 1.802,-12.014 ; -1.681,-12.028 1.788,-12.028 ; -1.667,-0.279 1.76,-0.279 ; -1.653,-12.042 1.76,-12.042 ; -1.639,-12.056 1.746,-12.056 ; -1.639,-0.265 1.718,-0.265 ; -1.611,-12.07 1.718,-12.07 ; -1.597,-12.084 1.704,-12.084 ; -1.597,-0.251 1.676,-0.251 ; -1.569,-12.098 1.676,-12.098 ; -1.555,-12.112 1.662,-12.112 ; -1.555,-0.237 -0.064,-0.237 1.634,-0.237 ; -1.527,-12.126 1.634,-12.126 ; -1.513,-0.224 -0.064,-0.224 1.607,-0.224 ; -1.499,-12.14 1.621,-12.14 ; -1.472,-12.154 1.579,-12.154 ; -1.472,-0.21 -0.064,-0.21 1.565,-0.21 ; -1.458,-12.168 1.551,-12.168 ; -1.43,-12.182 1.523,-12.182 ; -1.416,-0.196 -0.064,-0.196 1.523,-0.196 ; -1.402,-12.196 1.495,-12.196 ; -1.374,-12.21 1.481,-12.21 ; -1.374,-0.182 -0.064,-0.182 1.481,-0.182 ; -1.36,-12.224 1.453,-12.224 ; -1.332,-12.238 1.425,-12.238 ; -1.318,-0.168 -0.064,-0.168 1.439,-0.168 ; -1.304,-12.252 1.383,-12.252 ; -1.276,-12.266 -1.271,-12.266 ; -1.276,-0.154 -0.064,-0.154 1.397,-0.154 ; -1.248,-12.28 -1.243,-12.28 ; -1.248,-12.266 1.355,-12.266 ; -1.22,-12.28 1.327,-12.28 ; -1.22,-0.14 -0.064,-0.14 1.355,-0.14 ; -1.192,-12.294 1.299,-12.294 ; -1.15,-12.308 1.257,-12.308 ; -1.15,-0.126 -0.064,-0.126 1.299,-0.126 ; -1.122,-12.322 1.229,-12.322 ; -1.094,-12.336 1.201,-12.336 ; -1.094,-0.112 -0.064,-0.112 1.243,-0.112 ; -1.052,-12.349 1.16,-12.349 ; -1.024,-0.098 -0.064,-0.098 1.187,-0.098 ; -1.01,-12.363 1.118,-12.363 ; -0.983,-12.377 1.09,-12.377 ; -0.955,-0.084 -0.064,-0.084 1.118,-0.084 ; -0.941,-12.391 1.048,-12.391 ; -0.899,-12.405 1.006,-12.405 ; -0.871,-0.07 -0.064,-0.07 1.048,-0.07 ; -0.857,-12.419 0.964,-12.419 ; -0.815,-12.433 0.922,-12.433 ; -0.787,-0.056 -0.064,-0.056 0.95,-0.056 ; -0.759,-12.447 0.88,-12.447 ; -0.717,-12.461 0.824,-12.461 ; -0.675,-0.042 -0.064,-0.042 0.838,-0.042 ; -0.661,-12.475 0.782,-12.475 ; -0.605,-12.489 0.726,-12.489 ; -0.563,-0.028 -0.064,-0.028 0.685,-0.028 ; -0.549,-12.503 0.671,-12.503 ; -0.508,-12.517 0.615,-12.517 ; -0.452,-12.531 0.559,-12.531 ; -0.41,-0.014 -0.064,-0.014 0.475,-0.014 ; -0.396,-12.545 0.489,-12.545 ; -0.34,-12.559 0.405,-12.559 ; -0.27,-12.573 0.307,-12.573 ; -0.186,-12.587 0.196,-12.587 ; -0.047,0 0,0 ; -0.019,-12.601 -0.014,-12.601
Top Overlay:
  drawing of 2158 lines, arcs and shapes, not listed

## AMS1117 [mil]
pads (4):
  oct 65x150 smd: 1(0.03,-0.06)
  oval 65x150 smd: 2(100.03,-0.06) 3(200.03,-0.06)
  rect 100x100 smd: 4(100.03,239.94)
Top Overlay:
  lines w7.87: -25.97,232.94 -25.97,132.94 ; -24.97,99.94 -24.97,124.94 ; -24.3,236.27 34.03,252.94 74.03,292.94 134.03,292.94 154.03,252.94 234.03,232.94 234.03,112.94 ; 25.03,99.94 25.03,124.94 ; 75.03,99.94 75.03,124.94 ; 125.03,99.94 125.03,124.94 ; 175.03,99.94 175.03,124.94 ; 225.03,99.94 225.03,124.94 ; -25.97,132.94 -25.97,112.94 234.03,112.94 ; -25.97,132.94 234.03,132.94 234.03,112.94
  text "1" at -5.97,172.94 h50

## BATM [mm]
pads (4):
  round 1.1 hole 1.1 unplated: 0(0,3.748)
  round 1.5 hole 1.5 unplated: 0(0.025,-3.752)
  oct 2.5x6 smd: 1(0,-8.602)
  oval 2.5x6 smd: 2(0,8.598)
Top Overlay:
  lines w0.178: -6.6,-3.902 -7.2,-4.502 -7.2,-7.502 -2,-7.502 ; -3.815,-3.171 cw(c0,-0.002) -3.812,3.171 ; -0.833,-7.576 cw(c0,-0.002) -7.62,-0.002 cw(c0,-0.002) -0.833,7.573 ; 0.833,-7.576 ccw(c0,-0.002) 0.833,7.573 ; 2,-7.502 7.2,-7.502 7.2,-4.502 6.625,-3.927 ; 3.81,-3.177 ccw(c0,-0.002) 3.812,3.171

## BELL-5 [mm]
pads (2):
  rect 1.2x1.2 hole 0.7: 1(0,0)
  round 1.2 hole 0.7: 2(5.08,0)
Top Overlay:
  circle w0.254: c2.54,0 r4.51
  lines w0.254: -0.635,1.778 0.635,1.778 ; 0,1.143 0,2.413

## BTN8.5*8.5 [mm]
pads (6):
  rect 1.5x1.5 hole 0.8: 1(0,0)
  round 1.5 hole 0.8: 2(0,-2.54) 3(0,-5.08) 4(5.4,-5.08) 5(5.4,-2.54) 6(5.4,0)
Top Overlay:
  circle w0.254: c2.667,-2.54 r1.6
  lines w0.254: -1.55,-6.79 6.95,-6.79 6.95,1.71 -1.55,1.71 -1.55,-6.79

## C3528 [mm]
pads (2):
  rect 1.5x2.5 smd: 1(0,0) 2(3.5,0)
Top Overlay:
  lines w0.152: -1.448,0.662 -0.94,0.662 ; -1.194,0.408 -1.194,0.916
  lines w0.203: -1,0.2 -1,-1.5 1.005,-1.5 ; -1,1.1 -1,1.5 1,1.5 ; 2.5,-1.5 4.5,-1.5 4.5,1.5 2.5,1.5

## CC6.56.5 [mm]
pads (2):
  rect 3.2x1.5 smd: 1(-2.794,0) 2(2.8,0)
Top Overlay:
  circle w0.2: c0,0 r2.8
  lines w0.2: -3.302,-1.905 -3.302,1.905 -1.905,3.302 3.302,3.302 3.302,-3.302 -1.905,-3.302 -3.302,-1.905

## db2*17-4.3 [mm]
pads (40):
  rect 1.2x1.2 hole 0.7: 1(-0.002,0.006)
  round 1.2 hole 0.7: 2(-0.002,2.546) 3(2.538,0.006) 4(2.538,2.546) 5(5.08,0) 6(5.078,2.546) 7(7.62,0) 8(7.62,2.54) 9(10.158,0.006) 10(10.158,2.546) 11(12.698,0.006) 12(12.698,2.546) 13(15.238,0.006) 14(15.238,2.546) 15(17.778,0.006) 16(17.778,2.546) 17(20.318,0.006) 18(20.318,2.546) 19(22.858,0.006) 20(22.858,2.546) 21(25.398,0.006) 22(25.398,2.546) 23(27.938,0.006) 24(27.938,2.546) 25(30.478,0.006) 26(30.478,2.546) 27(33.018,0.006) 28(33.018,2.546) 29(35.558,0.006) 30(35.558,2.546) 31(38.098,0.006) 32(38.098,2.546) 33(40.638,0.006) 34(40.638,2.546)
  round 3.1 hole 3.1: ""(-7.125,-109.596) ""(-3.81,-88.18) ""(-2.037,-74.525) ""(42.54,-74.525) ""(44.82,-88.12) ""(47.925,-109.596)
Top Overlay:
  lines w0.203: -1.27,1.27 1.27,1.27 1.27,-1.23 1.32,-1.28 -1.26,-1.28 -1.27,-1.27 -1.27,3.82 41.91,3.82 41.91,-1.26 ; 1.21,-1.28 41.91,-1.28 ; 41.91,-1.25 41.91,-0.95
  lines w0.254: -10.403,5.334 -10.403,-111.887 51.192,-111.887 51.192,5.334 ; -10.38,5.334 51.17,5.334
  text "D7" at 14.351,-2.286 h0.71
  text "BL" at 27.559,-2.286 h0.71
  text "MISO" at 34.29,-2.286 h0.71
  text "TCS" at 39.751,-2.286 h0.71
  text "MO" at 37.65,4.1 h0.71
  text "MOSI" at 34.4,4.1 h0.71
  text "CLK" at 39.65,4.1 h0.71
  text "PEN" at 37.211,-2.286 h0.71
  text "D11" at 19.558,-2.286 h0.71
  text "GND" at 32.004,-2.286 h0.71
  text "GND" at 24.525,4.1 h0.71
  text "RD" at 2.025,4.1 h0.71
  text "D0" at 4.65,4.1 h0.71
  text "D10" at 16.9,4.1 h0.71
  text "VDD" at 27.025,4.1 h0.71
  text "GND" at 29.525,4.1 h0.71
  text "VDD" at 32.15,4.1 h0.71
  text "VDD" at 29.591,-2.286 h0.71
  text "D15" at 24.638,-2.286 h0.71
  text "D12" at 19.525,4.1 h0.71
  text "D13" at 22.025,-2.296 h0.71
  text "D9" at 17.145,-2.286 h0.71
  text "D8" at 14.4,4.1 h0.71
  text "D6" at 12.275,4.1 h0.71
  text "D5" at 12.192,-2.286 h0.71
  text "D4" at 9.65,4.1 h0.71
  text "D3" at 9.652,-2.286 h0.71
  text "D2" at 7.15,4.1 h0.71
  text "D1" at 7.239,-2.286 h0.71
  text "RST" at 4.191,-2.286 h0.71
  text "WR" at 2.032,-2.286 h0.71
  text "CS" at -0.508,-2.286 h0.71
  text "RS" at -0.475,4.1 h0.71
  text "D14" at 22.025,4.1 h0.71
  text "BL" at 27.557,-2.28 h0.71
  text "MISO" at 34.288,-2.28 h0.71
  text "TCS" at 39.749,-2.28 h0.71
  text "MO" at 37.648,4.106 h0.71
  text "MOSI" at 34.398,4.106 h0.71
  text "CLK" at 39.648,4.106 h0.71
  text "PEN" at 37.209,-2.28 h0.71
  text "D11" at 19.556,-2.28 h0.71
  text "GND" at 32.002,-2.28 h0.71
  text "GND" at 24.523,4.106 h0.71
  text "RD" at 2.023,4.106 h0.71
  text "D0" at 4.648,4.106 h0.71
  text "D10" at 16.898,4.106 h0.71
  text "VDD" at 27.023,4.106 h0.71
  text "GND" at 29.523,4.106 h0.71
  text "VDD" at 32.148,4.106 h0.71
  text "VDD" at 29.589,-2.28 h0.71
  text "D15" at 24.636,-2.28 h0.71
  text "D12" at 19.523,4.106 h0.71
  text "D9" at 17.143,-2.28 h0.71
  text "D8" at 14.398,4.106 h0.71
  text "D6" at 12.273,4.106 h0.71
  text "D5" at 12.19,-2.28 h0.71
  text "D4" at 9.648,4.106 h0.71
  text "D3" at 9.65,-2.28 h0.71
  text "D2" at 7.148,4.106 h0.71
  text "D1" at 7.237,-2.28 h0.71
  text "RST" at 4.189,-2.28 h0.71
  text "WR" at 2.03,-2.28 h0.71
  text "CS" at -0.51,-2.28 h0.71
  text "RS" at -0.477,4.106 h0.71
  text "D14" at 22.023,4.106 h0.71

## DB9 [mil]
pads (11):
  oval 170x80 hole 50 slot 140 at 0 deg: 0(-493,55) 0(493,55)
  rect 70x80 hole 38: 1(-218,0)
  oval 70x80 hole 38: 2(-109,0) 3(0,0) 4(109,0) 5(218,0) 6(-163,110) 7(-54,110) 8(55,110) 9(164,110)
Top Overlay:
  lines w6: -618,-70 -618,440 618,440 618,-70 -618,-70 ; -538,0 cw(c-538,55) -538,110 -448,110 cw(c-448,55) -448,0 -538,0 ; 448,0 cw(c448,55) 448,110 538,110 cw(c538,55) 538,0 448,0

## DC10B [mil]
pads (3):
  oval 80x180 hole 50 slot 110 at 90 deg: 1(419.09,170)
  oval 80x180 hole 50 slot 120 at 90 deg: 2(175,170)
  oval 180x80 hole 50 slot 110 at 0 deg: 3(297.05,-26.85)
Top Overlay:
  lines w6: 0,50 465,50 ; 0,300 460.13,300 464.25,300 ; 5,350 -15,350 -137.8,350 -137.8,0 0,0 ; 169,0 0,0 ; 173.37,0.16 cw(c231,-10) 231,48.52 361,48.52 cw(c361,-10) 418.63,0.16 ; 420,0 465,0 465,80 ; 464.83,82.38 cw(c420,120) 361.48,120 361.48,225 cw(c420,225) 464.83,262.62 465,350 0,350 0,0 ; 233.52,225 ccw(c175,225) 116.48,225 116.48,120 ccw(c175,120) 233.52,120 233.52,225 ; 233.52,225 233.52,225

## DHT11 [mm]
pads (4):
  round 1.3 hole 0.7: 1(0,0) 2(2.54,0) 3(5.08,0) 4(7.62,0)
Top Overlay:
  lines w0.203: -2.5,-3.5 7.62,-3.5 10.12,-3.5 ; -2.5,-3.46 -2.5,0 -2.5,2.5 7.62,2.5 10.12,2.5 10.12,0 10.12,-3.46 ; 0.635,-3.5 0.635,-1.905 1.905,-1.905 1.905,-3.5 ; 3.175,-3.5 3.175,-1.905 4.445,-1.905 4.445,-3.5 ; 5.715,-3.5 5.715,-1.905 6.985,-1.905 6.985,-3.5

## DIODE_3*5.3 [mm]
pads (2):
  rect 2.3x1.75 smd: 1(-2.286,0) 2(2.159,0)
Top Overlay:
  lines w0.1: -2.667,-1.016 -2.667,-1.5 2.54,-1.5 2.54,-1.016 ; -2.667,1.016 -2.667,1.5 2.54,1.5 2.54,1.016 ; 0.381,-0.889 0.381,0.889 ; 1.651,-1.5 1.651,-1.016 ; 1.651,1.016 1.651,1.5 ; -0.508,-0.889 -0.508,0.889 0.381,0 -0.508,-0.889

## DIODE_SOP [mm]
pads (2):
  rect 1.5x1.3 smd: 1(0,0) 2(3.556,0)
Top Overlay:
  rectangle: 2.286,-1.016 2.559,1.016
  lines w0.254: 1.143,-0.889 1.143,0.889 2.032,0 1.143,-0.889